# EAGLE library part DIPSW_8 (library KwanSystems)
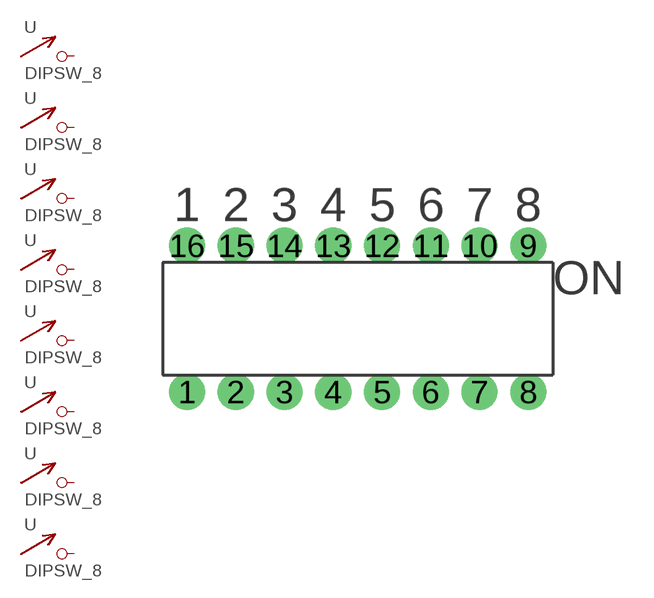
[diagram p46: symbol with the pads of DIPSW-8; footprint DIPSW-8]

Designator prefix -; gates G$1=SPST G$2=SPST G$3=SPST G$4=SPST G$5=SPST G$6=SPST G$7=SPST G$8=SPST

## DIPSW_8  [DIPSW-8]
1  G$1:1
2  G$2:1
3  G$3:1
4  G$4:1
5  G$5:1
6  G$6:1
7  G$7:1
8  G$8:1
9  G$8:2
10  G$7:2
11  G$6:2
12  G$5:2
13  G$4:2
14  G$3:2
15  G$2:2
16  G$1:2

## Footprint DIPSW-8 (pad centres in mm)
drill 1.016 pad 1.88: 1 -7.62,-3.81; 2 -5.08,-3.81; 3 -2.54,-3.81; 4 0,-3.81; 5 2.54,-3.81; 6 5.08,-3.81; 7 7.62,-3.81; 8 10.16,-3.81; 9 10.16,3.81; 10 7.62,3.81; 11 5.08,3.81; 12 2.54,3.81; 13 0,3.81; 14 -2.54,3.81; 15 -5.08,3.81; 16 -7.62,3.81